# Altium footprint library battery_socets.pcblib: 6 footprints
Each footprint in its own frame and in the unit in brackets; x right, y up, seen from the top. Pads: shape width x height; smd on the part's side, far side on the other; paste and mask are expansions set on the pad; w line width, h text height; cw(c..) or ccw(c..) is an arc to the next point about the centre after c.
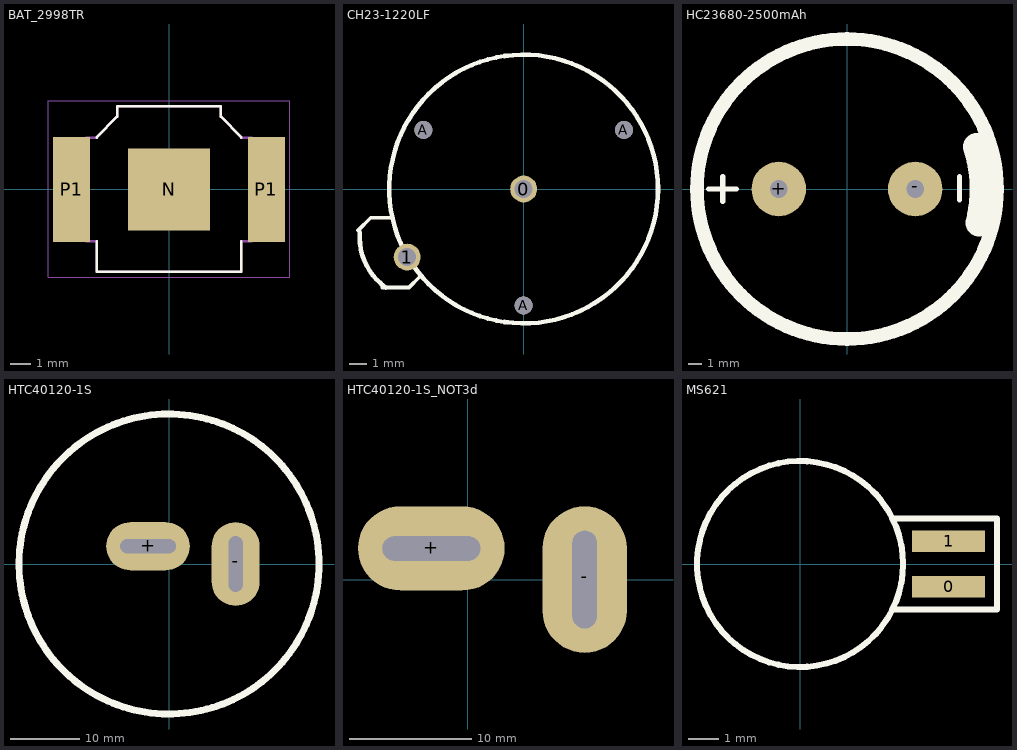
[diagram p0: the footprints below, top view; thin cyan lines are the x and y axes]

## BAT_2998TR [mm]
height 3.18
pads (3):
  rect 3.96x3.96 smd paste-3: N(0,0)
  rect 1.78x5.08 smd: P1(-4.7,0) P1(4.7,0)
Top Overlay:
  lines w0.127: -3.492,-2.5 -3.492,-3.98 3.492,-3.98 3.492,-2.5 ; -3.492,2.5 -2.5,3.518 -2.5,4.02 2.5,4.02 2.5,3.518 3.492,2.5
Plata3D:
  lines w0.127: -4,-2.5 -4,2.5 -3.492,2.5 -2.5,3.518 -2.5,4.02 2.5,4.02 2.5,3.518 3.492,2.5 4,2.5 4,-2.5 3.492,-2.5 3.492,-3.98 -3.492,-3.98 -3.492,-2.5 -4,-2.5
Board3D:
  lines w0.05: -5.84,-4.23 5.84,-4.23 5.84,4.27 -5.84,4.27 -5.84,-4.23
3D body "step_temp.STEP": height 3.05, standoff 0.01, extent -5.357,-3.937 5.357,4.064

## CH23-1220LF [mm] "1220 Battary holder"
pads (5):
  round 1.5 hole 1: 0(0,0) 1(-6.5,-3.8)
  round 1 hole 1: A(-5.6,3.3) A(0,-6.5) A(5.6,3.3)
Top Overlay:
  circle w0.254: c0,0 r7.5
  lines w0.2: -9.245,-2.312 -8.534,-1.6 -7.3,-1.6 ; -7.9,-5.5 -6.4,-5.5 -5.8,-4.9
  lines w0.254: -9.145,-2.412 ccw(c-5.672,-2.669) -7.7,-5.5
3D body "bat23.stp": height 5.4, standoff -3, extent -8.811,-7.488 7.495,7.499

## HC23680-2500mAh [mm] "LTO cell"
pads (2):
  round 4 hole 1.3 paste+0 mask+0: +(-5,0) -(5,0)
Top Overlay:
  circle w1: c0,0 r11
  lines w0.4: -10.128,0 -8.128,0 ; -9.128,-0.9 -9.128,0.9 ; 8.25,-0.8 8.25,0.9
  lines w2: 9.509,3.096 cw(c0,0) 9.687,-2.484
Bottom Overlay:
  lines w0.4: -10.144,0 -8.144,0 ; -9.144,-0.9 -9.144,0.9 ; 8.382,-0.8 8.382,0.9
3D body "cell.stp": height 69.2, standoff -9.8, extent -11.75,-11.75 11.755,11.75

## HTC40120-1S [mm]
pads (2):
  oval 12x6.9 hole 2 slot 8 at 0 deg paste-2539.97 mask+0: +(-3,2.55)
  oval 6.9x12 hole 2 slot 8 at 90 deg paste-2539.97 mask+0: -(9.55,0)
Top Overlay:
  circle w1: c0,0 r21.5
3D body "HTC40120-1S.stp": height 120, standoff -7, extent -20.254,-20.066 19.746,19.918

## HTC40120-1S_NOT3d [mm]
pads (2):
  oval 12x6.9 hole 2 slot 8 at 0 deg paste-2539.97 mask+0: +(-3,2.55)
  oval 6.9x12 hole 2 slot 8 at 90 deg paste-2539.97 mask+0: -(9.55,0)

## MS621 [mm] "Micro Li-ion rechargable battery"
pads (2):
  rect 2.4x0.7 smd: 0(4.9,-0.75) 1(4.9,0.75)
Top Overlay:
  circle w0.2: c0,0 r3.4
  lines w0.2: 3.1,-1.5 6.5,-1.5 6.5,1.5 3.1,1.5
3D body "MS621_batt.stp": height 2.4, standoff 0, extent -3.4,-3.4 5.9,3.399